# EAGLE library part USB_A_X2_THROUGHHOLE (library USB_Connector)
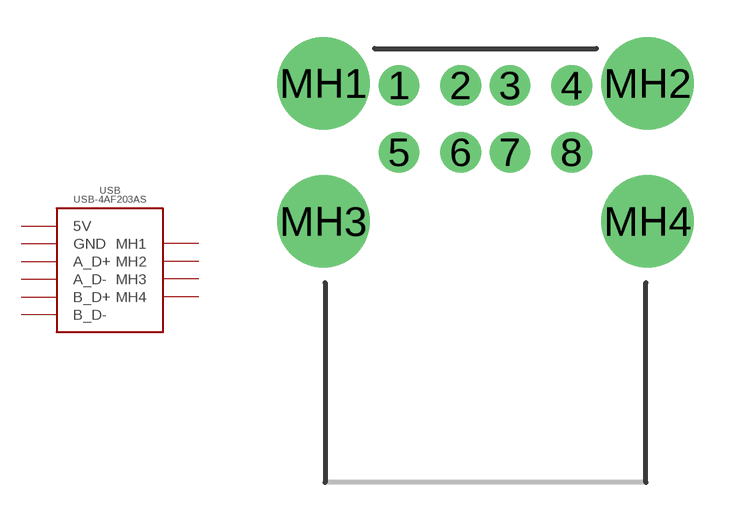
[diagram p1: symbol with the pads of USB_A_X2_THROUGHHOLE; footprint USB_A_X2_THROUGHHOLE]

Designator prefix USB

## USB_A_X2_THROUGHHOLE  [USB_A_X2_THROUGHHOLE]
1  5V
2  A_D-
3  A_D+
4  GND
5  5V
6  B_D-
7  B_D+
8  GND
MH1  MH1
MH2  MH2
MH3  MH3
MH4  MH4

## Footprint USB_A_X2_THROUGHHOLE (pad centres in mm)
drill 1.1 pad 1.65: 1 -3.5,16.11; 2 -1,16.11; 3 1,16.11; 4 3.5,16.11; 5 -3.5,13.4; 6 -1,13.4; 7 1,13.4; 8 3.5,13.4
drill 2.5 pad 3.75: MH1 -6.57,16.2; MH2 6.57,16.2; MH3 -6.57,10.6; MH4 6.57,10.6